# Altium footprint library 452006250-3#NIBP涡轮驱动板V2.001.PcbLib: 80 footprints (part 5 of 5)
Each footprint in its own frame and in the unit in brackets; x right, y up, seen from the top. Pads: shape width x height; smd on the part's side, far side on the other; paste and mask are expansions set on the pad; w line width, h text height; cw(c..) or ccw(c..) is an arc to the next point about the centre after c.
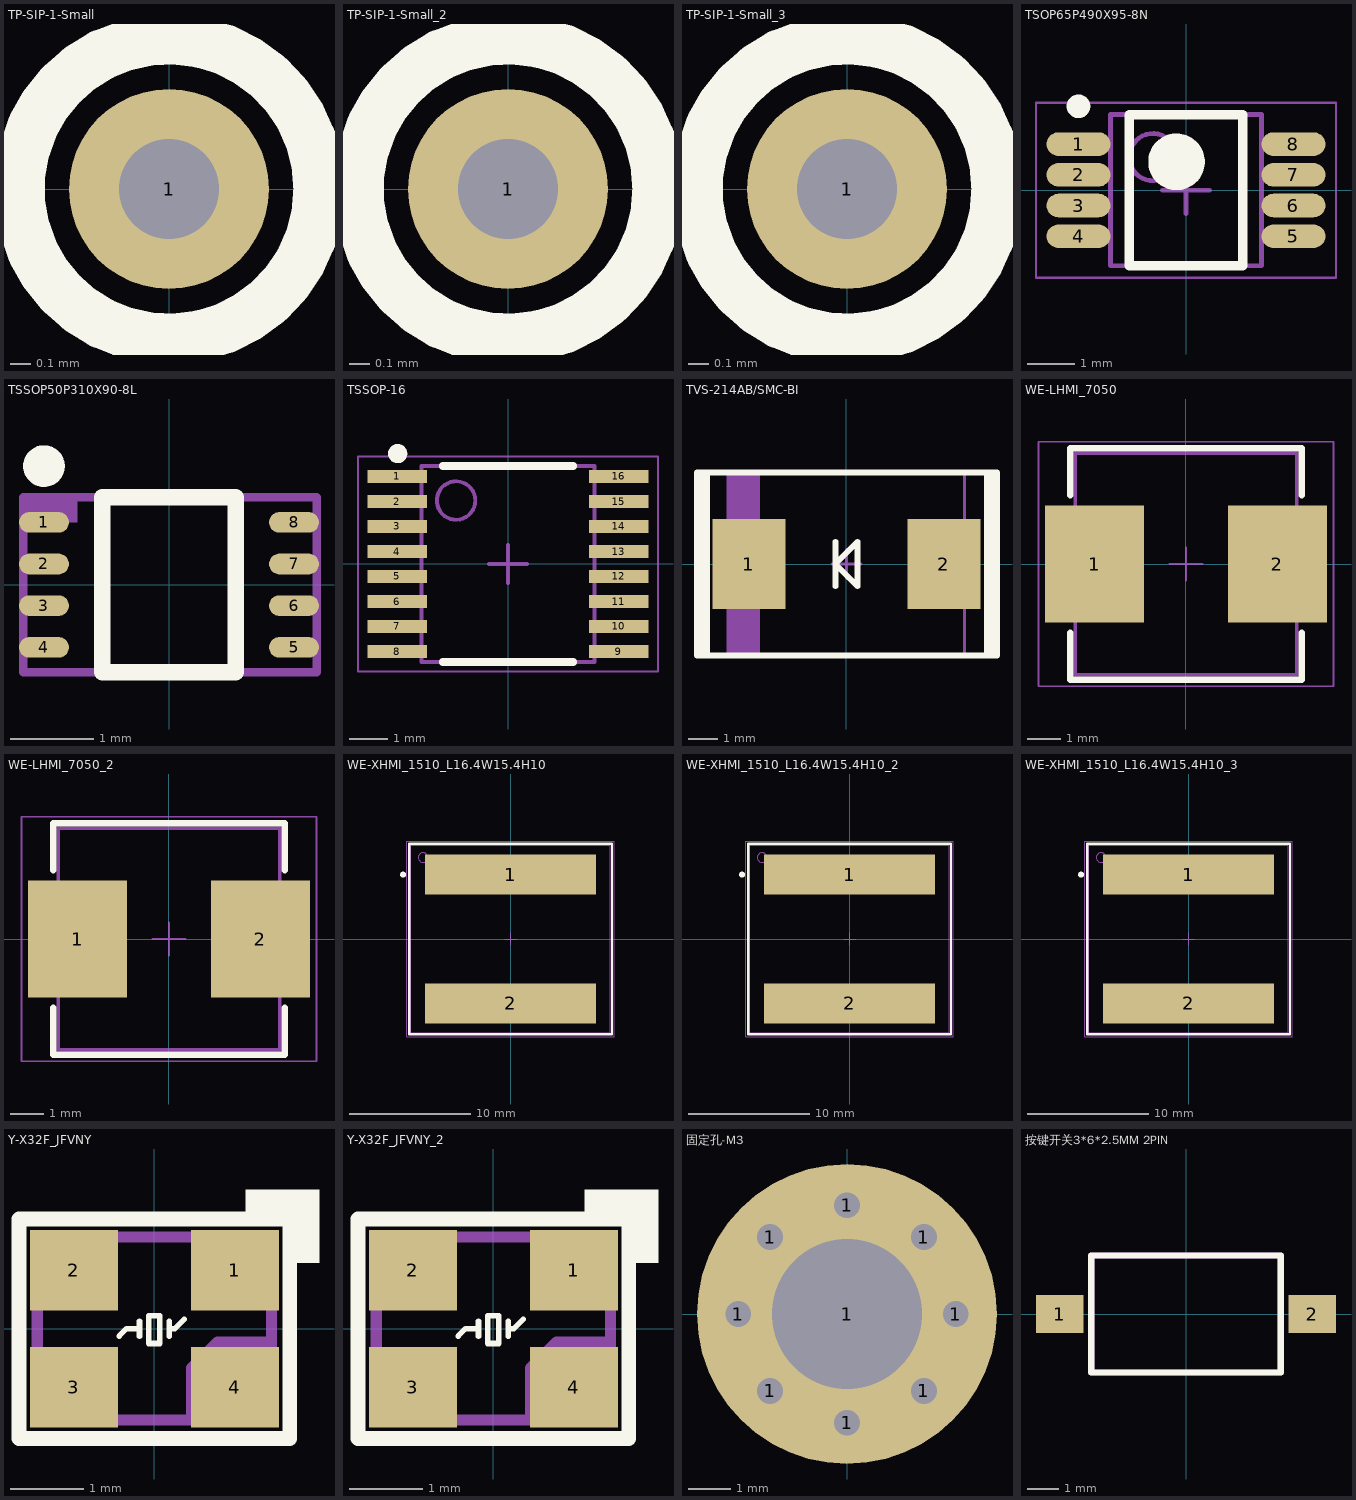
[diagram p4: the footprints below, top view; thin cyan lines are the x and y axes]

## TP-SIP-1-Small [mm]
pads (1):
  round 1 hole 0.5: 1(0,0)
Top Overlay:
  circle w0.254: c0,0 r0.749

## TP-SIP-1-Small_2 [mm]
pads (1):
  round 1 hole 0.5: 1(0,0)
Top Overlay:
  circle w0.254: c0,0 r0.749

## TP-SIP-1-Small_3 [mm]
pads (1):
  round 1 hole 0.5: 1(0,0)
Top Overlay:
  circle w0.254: c0,0 r0.749

## TSOP65P490X95-8N [mm] "TSOP, 8-Leads, Body 3.00x3.00mm, Pitch 0.65mm, IPC Medium Density"
height 0.95
pads (8):
  oval 1.35x0.5 smd: 1(-2.275,0.975) 2(-2.275,0.325) 3(-2.275,-0.325) 4(-2.275,-0.975) 5(2.275,-0.975) 6(2.275,-0.325) 7(2.275,0.325) 8(2.275,0.975)
Top Overlay:
  circle w0.25: c-2.275,1.775 r0.125
  circle w0.6: c-0.2,0.6 r0.3
  lines w0.2: -1.2,-1.6 -1.2,1.6 1.2,1.6 1.2,-1.6 -1.2,-1.6
Mechanical 13:
  circle w0.1: c-0.7,0.7 r0.5
  lines w0.1: -1.6,-1.6 -1.6,1.6 1.6,1.6 1.6,-1.6 -1.6,-1.6
Mechanical 15:
  lines w0.05: -3.175,-1.85 -3.175,1.85 3.175,1.85 3.175,-1.85 -3.175,-1.85
  lines w0.1: -0.5,0 0.5,0 ; 0,-0.5 0,0.5
3D body "TSOP65P490X95-8N.step": height 0.95, standoff 0, extent -2.45,-1.6 2.45,1.6

## TSSOP50P310X90-8L [mm] "TSSOP, 8-Leads, Body 2,00x2,30mm, Pitch 0,50mm, IPC High Density"
height 0.9
pads (8):
  oval 0.6x0.25 smd: 1(-1.5,0.75) 2(-1.5,0.25) 3(-1.5,-0.25) 4(-1.5,-0.75) 5(1.5,-0.75) 6(1.5,-0.25) 7(1.5,0.25) 8(1.5,0.75)
Top Overlay:
  circle w0.25: c-1.5,1.425 r0.125
  lines w0.2: -0.8,-1.05 -0.8,1.05 0.8,1.05 0.8,-1.05 -0.8,-1.05
Mechanical 16:
  region: -1.75,1.05 -1.75,0.75 -1.1,0.75 -1.1,1.05
  lines w0.1: -1.75,-1.05 1.775,-1.05 1.775,1.05 -1.75,1.05 -1.75,-1.05
3D body "TSSOP50P310X90-8L.step": height 0.9, standoff 0, extent -1.549,-1.05 1.549,1.05

## TSSOP-16 [mm]
pads (16):
  rect 1.55x0.35 smd: 1(-2.875,2.275) 2(-2.875,1.625) 3(-2.875,0.975) 4(-2.875,0.325) 5(-2.875,-0.325) 6(-2.875,-0.975) 7(-2.875,-1.625) 8(-2.875,-2.275) 9(2.875,-2.275) 10(2.875,-1.625) 11(2.875,-0.975) 12(2.875,-0.325) 13(2.875,0.325) 14(2.875,0.975) 15(2.875,1.625) 16(2.875,2.275)
Top Overlay:
  circle w0.25: c-2.868,2.87 r0.125
  lines w0.2: -1.7,-2.55 1.7,-2.55 ; -1.7,2.55 1.7,2.55
Mechanical 13:
  circle w0.1: c-1.35,1.65 r0.5
  lines w0.1: -2.25,-2.55 2.25,-2.55 2.25,2.55 -2.25,2.55 -2.25,-2.55
Mechanical 15:
  lines w0.05: -3.9,-2.8 3.9,-2.8 3.9,2.8 -3.9,2.8 -3.9,-2.8
  lines w0.1: -0.5,0 0.5,0 ; 0,-0.5 0,0.5
3D body: height 1.1, standoff 0.05, extent -2.25,-2.55 2.25,2.55

## TVS-214AB/SMC-BI [mm] "Molded Diode, 2-Leads, Body 6.61x5.81mm, IPC Medium Density"
height 2
pads (2):
  rect 2.5x3.1 smd: 1(-3.35,0) 2(3.35,0)
Top Overlay:
  region: -5.135,3.15 -4.785,3.15 -4.785,-3.15 -5.135,-3.15
  region: 5.175,-3.15 4.825,-3.15 4.825,3.15 5.175,3.15
  lines w0.203: -4.785,-3.15 -4.785,3.064 ; -0.382,-0.765 -0.382,0.765 ; 4.825,-3.15 4.825,3.15 ; -5.135,-3.15 -5.135,3.15 5.175,3.15 5.175,-3.15 -5.135,-3.15 ; -0.38,0 0.38,-0.765 0.38,0.765 -0.38,0
Mechanical 13:
  rectangle: -4.065,-3.11 -2.971,3.11
  lines w0.1: -4.065,-3.11 4.065,-3.11 4.065,3.11 -4.065,3.11 -4.065,-3.11
Mechanical 15:
  lines w0.1: -0.5,0 0.5,0 ; 0,-0.5 0,0.5
3D body: height 2, standoff 0, extent -4.065,-3.11 4.065,3.11

## WE-LHMI_7050 [mm] "SMT Power Inductor, 2-Leads, body 6.6x6.6mm"
height 4.8
pads (2):
  rect 2.95x3.5 smd: 1(-2.725,0) 2(2.725,0)
Top Overlay:
  lines w0.2: -3.45,-2.05 -3.45,-3.45 3.45,-3.45 3.45,-2.05 ; -3.45,2.05 -3.45,3.45 3.45,3.45 3.45,2.05
Mechanical 11:
  lines w0.1: -3.3,-3.3 3.3,-3.3 3.3,3.3 -3.3,3.3 -3.3,-3.3
Mechanical 13:
  lines w0.1: -3.3,-3.3 3.3,-3.3 3.3,3.3 -3.3,3.3 -3.3,-3.3
Mechanical 15:
  lines w0.05: -0.5,0 0.5,0 ; 0,-0.5 0,0.5 ; -4.4,-3.65 4.4,-3.65 4.4,3.65 -4.4,3.65 -4.4,-3.65
3D body "STEP-WE-LHMI-7050-rev1.stp": height 4.8, standoff 0, extent -3.65,-3.3 3.65,3.3

## WE-LHMI_7050_2 [mm]
pads (2):
  rect 2.95x3.5 smd: 1(-2.725,0) 2(2.725,0)
Top Overlay:
  lines w0.2: -3.45,-2.05 -3.45,-3.45 3.45,-3.45 3.45,-2.05 ; -3.45,2.05 -3.45,3.45 3.45,3.45 3.45,2.05
Mechanical 11:
  lines w0.1: -3.3,-3.3 3.3,-3.3 3.3,3.3 -3.3,3.3 -3.3,-3.3
Mechanical 13:
  lines w0.1: -3.3,-3.3 3.3,-3.3 3.3,3.3 -3.3,3.3 -3.3,-3.3
Mechanical 15:
  lines w0.05: -0.5,0 0.5,0 ; 0,-0.5 0,0.5 ; -4.4,-3.65 4.4,-3.65 4.4,3.65 -4.4,3.65 -4.4,-3.65
3D body "STEP-WE-LHMI-7050-rev1.stp": height 4.8, standoff 0, extent -3.65,-3.3 3.65,3.3

## WE-XHMI_1510_L16.4W15.4H10 [mm] "SMT Power Inductor, 2-Leads, body 16.4x15.4mm"
height 10
pads (2):
  rect 14.1x3.3 smd: 1(0,5.3) 2(0,-5.3)
Top Overlay:
  circle w0.25: c-8.85,5.3 r0.125
  lines w0.2: -8.35,-7.85 8.35,-7.85 8.35,7.85 -8.35,7.85 -8.35,-7.85
Mechanical 11:
  circle w0.1: c-7.2,6.7 r0.4
  lines w0.1: -8.2,-7.7 8.2,-7.7 8.2,7.7 -8.2,7.7 -8.2,-7.7
Mechanical 13:
  circle w0.1: c-7.2,6.7 r0.4
  lines w0.1: -8.2,-7.7 -8.2,7.7 8.2,7.7 8.2,-7.7 -8.2,-7.7
Mechanical 15:
  lines w0.05: -0.5,0 0.5,0 ; 0,-0.5 0,0.5 ; -8.55,-8.05 8.55,-8.05 8.55,8.05 -8.55,8.05 -8.55,-8.05
3D body "74439370xxx.stp": height 10, standoff 0, extent -8.2,-7.7 8.2,7.7

## WE-XHMI_1510_L16.4W15.4H10_2 [mm]
pads (2):
  rect 14.1x3.3 smd: 1(0,5.3) 2(0,-5.3)
Top Overlay:
  circle w0.25: c-8.85,5.3 r0.125
  lines w0.2: -8.35,-7.85 8.35,-7.85 8.35,7.85 -8.35,7.85 -8.35,-7.85
Mechanical 11:
  circle w0.1: c-7.2,6.7 r0.4
  lines w0.1: -8.2,-7.7 8.2,-7.7 8.2,7.7 -8.2,7.7 -8.2,-7.7
Mechanical 13:
  circle w0.1: c-7.2,6.7 r0.4
  lines w0.1: -8.2,-7.7 -8.2,7.7 8.2,7.7 8.2,-7.7 -8.2,-7.7
Mechanical 15:
  lines w0.05: -0.5,0 0.5,0 ; 0,-0.5 0,0.5 ; -8.55,-8.05 8.55,-8.05 8.55,8.05 -8.55,8.05 -8.55,-8.05
3D body "74439370xxx.stp": height 10, standoff 0, extent -8.2,-7.7 8.2,7.7

## WE-XHMI_1510_L16.4W15.4H10_3 [mm]
pads (2):
  rect 14.1x3.3 smd: 1(0,5.3) 2(0,-5.3)
Top Overlay:
  circle w0.25: c-8.85,5.3 r0.125
  lines w0.2: -8.35,-7.85 8.35,-7.85 8.35,7.85 -8.35,7.85 -8.35,-7.85
Mechanical 11:
  circle w0.1: c-7.2,6.7 r0.4
  lines w0.1: -8.2,-7.7 8.2,-7.7 8.2,7.7 -8.2,7.7 -8.2,-7.7
Mechanical 13:
  circle w0.1: c-7.2,6.7 r0.4
  lines w0.1: -8.2,-7.7 -8.2,7.7 8.2,7.7 8.2,-7.7 -8.2,-7.7
Mechanical 15:
  lines w0.05: -0.5,0 0.5,0 ; 0,-0.5 0,0.5 ; -8.55,-8.05 8.55,-8.05 8.55,8.05 -8.55,8.05 -8.55,-8.05
3D body "74439370xxx.stp": height 10, standoff 0, extent -8.2,-7.7 8.2,7.7

## Y-X32F_JFVNY [mm]
pads (4):
  rect 1.2x1.1 smd: 1(1.1,0.8) 2(-1.1,0.8) 3(-1.1,-0.8) 4(1.1,-0.8)
Top Overlay:
  region: 2.25,0.9 2.25,1.9 1.25,1.9 1.25,1.5 1.85,1.5 1.85,0.9
  lines w0.076: -0.483,-0.102 -0.381,0 -0.203,0 ; -0.203,-0.102 -0.203,0.102 ; 0.203,-0.102 0.203,0.102 ; 0.203,0 0.279,0 0.406,0.127 ; -0.076,-0.203 -0.076,0.178 0.076,0.178 0.076,-0.203 -0.076,-0.203
  lines w0.203: -1.85,-1.5 -1.85,1.5 1.85,1.5 1.85,-1.5 -1.85,-1.5
Mechanical 13:
  lines w0.152: 0.508,-1.25 0.508,-0.539 0.864,-0.183 1.524,-0.183 ; -1.6,-1.25 1.6,-1.25 1.6,1.25 -1.6,1.25 -1.6,-1.25
3D body: height 1, standoff 0, extent -1.6,-1.25 1.6,1.25

## Y-X32F_JFVNY_2 [mm]
pads (4):
  rect 1.2x1.1 smd: 1(1.1,0.8) 2(-1.1,0.8) 3(-1.1,-0.8) 4(1.1,-0.8)
Top Overlay:
  region: 2.25,0.9 2.25,1.9 1.25,1.9 1.25,1.5 1.85,1.5 1.85,0.9
  lines w0.076: -0.483,-0.102 -0.381,0 -0.203,0 ; -0.203,-0.102 -0.203,0.102 ; 0.203,-0.102 0.203,0.102 ; 0.203,0 0.279,0 0.406,0.127 ; -0.076,-0.203 0.076,-0.203 0.076,0.178 -0.076,0.178 -0.076,-0.203
  lines w0.203: -1.85,-1.5 1.85,-1.5 1.85,1.5 -1.85,1.5 -1.85,-1.5
Mechanical 13:
  lines w0.152: 0.508,-1.25 0.508,-0.539 0.864,-0.183 1.524,-0.183 ; -1.6,-1.25 -1.6,1.25 1.6,1.25 1.6,-1.25 -1.6,-1.25
3D body: height 1, standoff 0, extent -1.6,-1.25 1.6,1.25

## 固定孔-M3 [mm]
height 2.62
pads (9):
  round 1 hole 0.6: 1(-2.54,0) 1(-1.796,-1.796) 1(-1.796,1.796) 1(0,-2.54) 1(0,2.54) 1(1.796,-1.796) 1(1.796,1.796) 1(2.54,0)
  round 7 hole 3.5: 1(0,0)

## 按键开关3*6*2.5MM 2PIN [mm]
pads (2):
  rect 1.5x1.2 smd: 1(-4,0) 2(4,0)
Top Overlay:
  lines w0.2: -3,-1.85 3,-1.85 3,1.85 -3,1.85 -3,-1.85
Mechanical 13:
  lines w0.2: -3,-1.85 -3,1.85 3,1.85 3,-1.85 -3,-1.85
3D body: height 1.2, standoff 0, extent -3,-1.85 3,1.85
3D body: height 2.2, standoff 0, extent -2,-0.75 2,0.75
3D body: height 1.5, standoff 0, extent -2.5,-1.25 2.5,1.25